# Altium schematic symbol library Nexperia.SchLib: 2 symbols
Pins are listed as number, name and electrical type; pins without a type are passive.

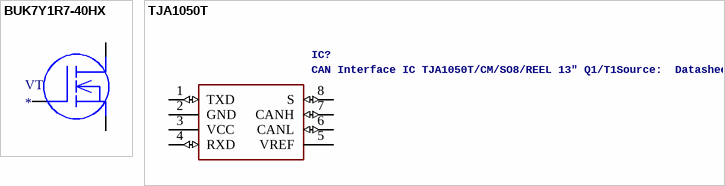
[diagram p0: symbols BUK7Y1R7-40HX to TJA1050T]

## BUK7Y1R7-40HX
designator VT
Vds: 40 В; Id: 120 А; RdsON: 950 uOhms; Pd: 294 W; ComponentLink1Description: Datasheet; ComponentLink1URL: https://ru.mouser.com/datasheet/2/916/BUK7Y1R7-40H-1319605.pdf
footprint LFPAK56; PowerSO8 (SOT669); pin to pad D>mb G>4 S>1+2+3
pins: D, G, S

## TJA1050T
designator IC?, comment CAN Interface IC TJA1050T/CM/SO8/REEL 13" Q1/T1Source:  Datasheet
Manufacturer_Name: Nexperia; GateName_1: G$1; SymbolName_1: TJA1050T; LibraryName: TJA1050T; DeviceSetName: TJA1050T; Package: SOIC127P600X175-8N; Mouser_Part_Number: N/A; Mouser_Price-Stock: https://www.mouser.com/Search/Refine.aspx?Keyword=N%2FA; Manufacturer_Part_Number: TJA1050T; Height: 1.75mm
footprint SO-8 (SOIC, 8-Leads, Body 4,91x3,90mm, Pitch 1,27mm, IPC Medium Density)
pins: 1 TXD (io), 2 GND (power), 3 VCC (power), 4 RXD (io), 5 VREF, 6 CANL (io), 7 CANH (io), 8 S (io)